# Altium footprint library AMPHENOL_91910-21169LF.PcbLib: 1 footprints
Each footprint in its own frame and in the unit in brackets; x right, y up, seen from the top. Pads: shape width x height; smd on the part's side, far side on the other; paste and mask are expansions set on the pad; w line width, h text height; cw(c..) or ccw(c..) is an arc to the next point about the centre after c.
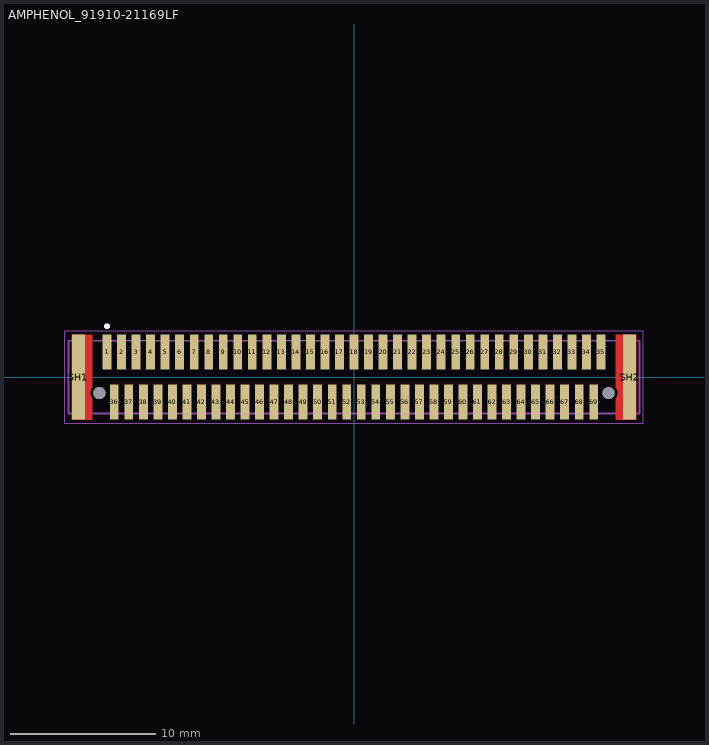
[diagram p0: the footprint, top view; thin cyan lines are the x and y axes]

## AMPHENOL_91910-21169LF [mm]
pads (73):
  rect 0.61x2.41 smd paste-2: 1(-17,1.72) 2(-16,1.72) 3(-15,1.72) 4(-14,1.72) 5(-13,1.72) 6(-12,1.72) 7(-11,1.72) 8(-10,1.72) 9(-9,1.72) 10(-8,1.72) 11(-7,1.72) 12(-6,1.72) 13(-5,1.72) 14(-4,1.72) 15(-3,1.72) 16(-2,1.72) 17(-1,1.72) 18(0,1.72) 19(1,1.72) 20(2,1.72) 21(3,1.72) 22(4,1.72) 23(5,1.72) 24(6,1.72) 25(7,1.72) 26(8,1.72) 27(9,1.72) 28(10,1.72) 29(11,1.72) 30(12,1.72) 31(13,1.72) 32(14,1.72) 33(15,1.72) 34(16,1.72) 35(17,1.72) 36(-16.5,-1.72) 37(-15.5,-1.72) 38(-14.5,-1.72) 39(-13.5,-1.72) 40(-12.5,-1.72) 41(-11.5,-1.72) 42(-10.5,-1.72) 43(-9.5,-1.72) 44(-8.5,-1.72) 45(-7.5,-1.72) 46(-6.5,-1.72) 47(-5.5,-1.72) 48(-4.5,-1.72) 49(-3.5,-1.72) 50(-2.5,-1.72) 51(-1.5,-1.72) 52(-0.5,-1.72) 53(0.5,-1.72) 54(1.5,-1.72) 55(2.5,-1.72) 56(3.5,-1.72) 57(4.5,-1.72) 58(5.5,-1.72) 59(6.5,-1.72) 60(7.5,-1.72) 61(8.5,-1.72) 62(9.5,-1.72) 63(10.5,-1.72) 64(11.5,-1.72) 65(12.5,-1.72) 66(13.5,-1.72) 67(14.5,-1.72) 68(15.5,-1.72) 69(16.5,-1.72)
  rect 0.89x5.85 smd mask+0: SH1(-18.975,0) SH2(18.975,0)
  round 0.84 hole 0.84 unplated: ""(-17.526,-1.1) ""(17.526,-1.1)
Top Layer:
  region: -18.02,-0.71 -18.029,-0.722 -18.038,-0.733 -18.046,-0.744 -18.054,-0.756 -18.062,-0.768 -18.069,-0.78 -18.076,-0.792 -18.083,-0.804 -18.089,-0.817 -18.096,-0.829 -18.101,-0.842 -18.107,-0.855 -18.112,-0.868 -18.117,-0.881 -18.122,-0.894 -18.127,-0.907 -18.131,-0.921 -18.135,-0.934 -18.138,-0.948 -18.141,-0.962 -18.144,-0.975 -18.147,-0.989 -18.149,-1.003 -18.151,-1.017 -18.152,-1.031 -18.153,-1.045 -18.154,-1.059 -18.155,-1.073 -18.155,-1.087 -18.155,-1.1 -18.155,-1.113 -18.155,-1.127 -18.154,-1.141 -18.153,-1.155 -18.152,-1.169 -18.151,-1.183 -18.149,-1.197 -18.147,-1.211 -18.144,-1.225 -18.141,-1.238 -18.138,-1.252 -18.135,-1.266 -18.131,-1.279 -18.127,-1.293 -18.122,-1.306 -18.117,-1.319 -18.112,-1.332 -18.107,-1.345 -18.101,-1.358 -18.096,-1.371 -18.089,-1.383 -18.083,-1.396 -18.076,-1.408 -18.069,-1.42 -18.062,-1.432 -18.054,-1.444 -18.046,-1.456 -18.038,-1.467 -18.029,-1.478 -18.02,-1.49 -18.02,-2.925 -19.42,-2.925 -19.42,2.925 -18.02,2.925
  region: 19.42,-2.925 18.02,-2.925 18.02,-1.49 18.029,-1.478 18.038,-1.467 18.046,-1.456 18.054,-1.444 18.062,-1.432 18.069,-1.42 18.076,-1.408 18.083,-1.396 18.089,-1.383 18.096,-1.371 18.101,-1.358 18.107,-1.345 18.112,-1.332 18.117,-1.319 18.122,-1.306 18.127,-1.293 18.131,-1.279 18.135,-1.266 18.138,-1.252 18.141,-1.238 18.144,-1.225 18.147,-1.211 18.149,-1.197 18.151,-1.183 18.152,-1.169 18.153,-1.155 18.154,-1.141 18.155,-1.127 18.155,-1.113 18.155,-1.11 18.155,-1.1 18.155,-1.087 18.155,-1.073 18.154,-1.059 18.153,-1.045 18.152,-1.031 18.151,-1.017 18.149,-1.003 18.147,-0.989 18.144,-0.975 18.141,-0.962 18.138,-0.948 18.135,-0.934 18.131,-0.921 18.127,-0.907 18.122,-0.894 18.117,-0.881 18.112,-0.868 18.107,-0.855 18.101,-0.842 18.096,-0.829 18.089,-0.817 18.083,-0.804 18.076,-0.792 18.069,-0.78 18.062,-0.768 18.054,-0.756 18.046,-0.744 18.038,-0.733 18.029,-0.722 18.02,-0.71 18.02,2.925 19.42,2.925
Top Overlay:
  circle w0.2: c-17,3.5 r0.1
Top Paste:
  drawing of 69 lines, arcs and shapes, not listed
Top Solder:
  region: -17.92,-0.745 -17.931,-0.757 -17.939,-0.766 -17.947,-0.777 -17.955,-0.787 -17.963,-0.797 -17.97,-0.808 -17.977,-0.819 -17.984,-0.83 -17.991,-0.841 -17.997,-0.852 -18.003,-0.864 -18.009,-0.876 -18.014,-0.888 -18.019,-0.9 -18.024,-0.912 -18.028,-0.924 -18.032,-0.936 -18.036,-0.949 -18.039,-0.961 -18.042,-0.974 -18.045,-0.987 -18.048,-0.999 -18.05,-1.012 -18.052,-1.025 -18.053,-1.038 -18.054,-1.051 -18.055,-1.064 -18.055,-1.077 -18.055,-1.09 -18.055,-1.1 -18.055,-1.11 -18.055,-1.123 -18.055,-1.136 -18.054,-1.149 -18.053,-1.162 -18.052,-1.175 -18.05,-1.188 -18.048,-1.201 -18.045,-1.213 -18.042,-1.226 -18.039,-1.239 -18.036,-1.251 -18.032,-1.264 -18.028,-1.276 -18.024,-1.288 -18.019,-1.3 -18.014,-1.312 -18.009,-1.324 -18.003,-1.336 -17.997,-1.348 -17.991,-1.359 -17.984,-1.37 -17.977,-1.381 -17.97,-1.392 -17.963,-1.403 -17.955,-1.413 -17.947,-1.423 -17.939,-1.434 -17.931,-1.443 -17.92,-1.455 -17.92,-3.025 -19.52,-3.025 -19.52,3.025 -17.92,3.025
  region: 19.52,-3.025 17.92,-3.025 17.92,-1.455 17.931,-1.443 17.939,-1.434 17.947,-1.423 17.955,-1.413 17.963,-1.403 17.97,-1.392 17.977,-1.381 17.984,-1.37 17.991,-1.359 17.997,-1.348 18.003,-1.336 18.009,-1.324 18.014,-1.312 18.019,-1.3 18.024,-1.288 18.028,-1.276 18.032,-1.264 18.036,-1.251 18.039,-1.239 18.042,-1.226 18.045,-1.213 18.048,-1.201 18.05,-1.188 18.052,-1.175 18.053,-1.162 18.054,-1.149 18.055,-1.136 18.055,-1.123 18.055,-1.11 18.055,-1.1 18.055,-1.09 18.055,-1.077 18.055,-1.064 18.054,-1.051 18.053,-1.038 18.052,-1.025 18.05,-1.012 18.048,-0.999 18.045,-0.987 18.042,-0.974 18.039,-0.961 18.036,-0.949 18.032,-0.936 18.028,-0.924 18.024,-0.912 18.019,-0.9 18.014,-0.888 18.009,-0.876 18.003,-0.864 17.997,-0.852 17.991,-0.841 17.984,-0.83 17.977,-0.819 17.97,-0.808 17.963,-0.797 17.955,-0.787 17.947,-0.777 17.939,-0.766 17.931,-0.757 17.92,-0.745 17.92,3.025 19.52,3.025
Mechanical 13:
  circle w0.2: c-17,3.5 r0.1
  lines w0.127: -19.65,-2.5 -19.65,2.5 19.65,2.5 19.65,-2.5 -19.65,-2.5
Mechanical 15:
  lines w0.05: -19.9,-3.175 -19.9,3.175 19.9,3.175 19.9,-3.175 -19.9,-3.175
3D body "step_temp.STEP": height 3.61, standoff 0, extent -19.65,-2.795 19.65,2.795